# Altium schematic symbol library MAX9744_AMP Module.SchLib: 1 symbol
Pins are listed as number, name and electrical type; pins without a type are passive.

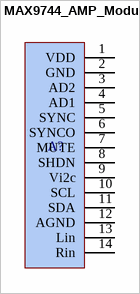
[diagram p0: symbol MAX9744_AMP_Module]

## MAX9744_AMP_Module
designator A?  (value not drawn)
Adafruit MAX9744 20W Class D Stereo Amplifier
footprint MAX9744_AMP Module (20W Stereo Amplifier)
pins: 1 VDD, 2 GND, 3 AD2, 4 AD1, 5 SYNC, 6 SYNCO, 7 MUTE, 8 SHDN, 9 Vi2c, 10 SCL, 11 SDA, 12 AGND, 13 Lin, 14 Rin